# Altium schematic symbol library Funk.SchLib: 8 symbols
Pins are listed as number, name and electrical type; pins without a type are passive.

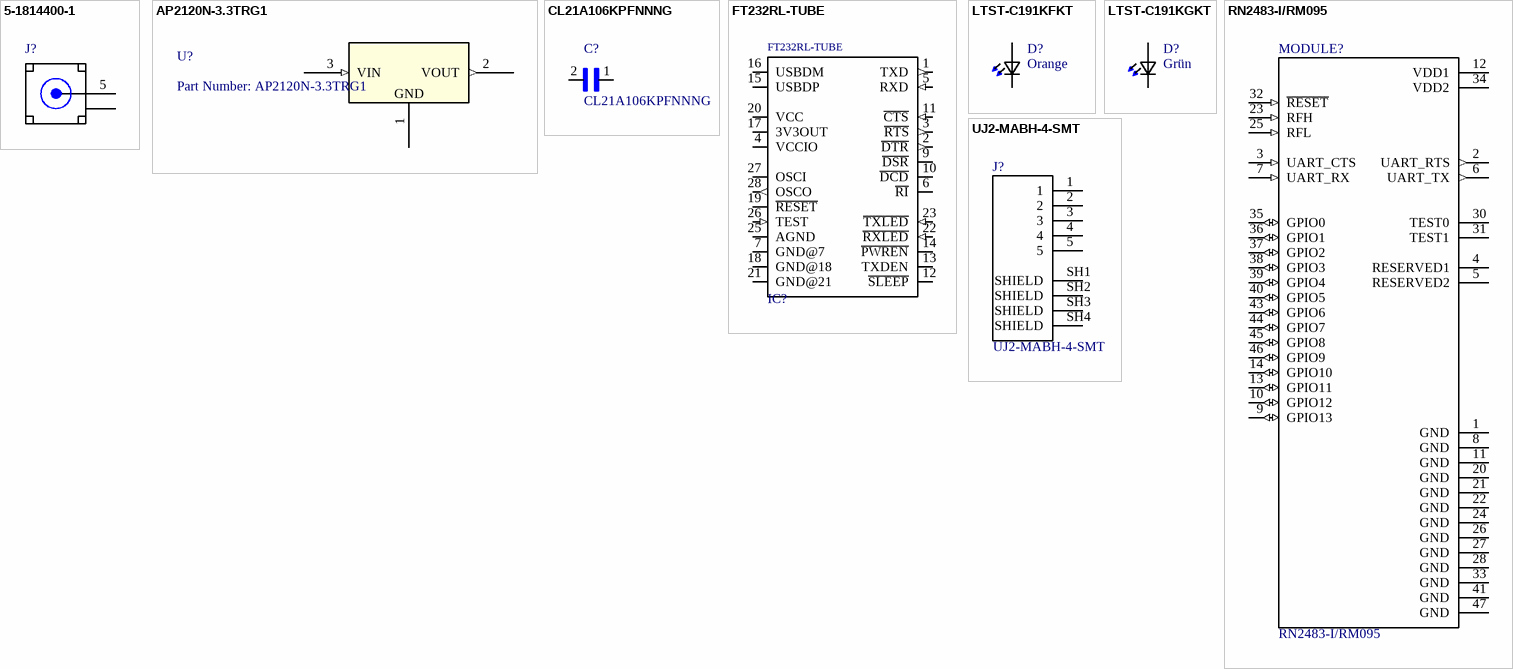
[diagram p0: symbols 5-1814400-1 to UJ2-MABH-4-SMT]

## 5-1814400-1
designator J?  (value not drawn)
Conn SMA RCP 0Hz to 3GHz 50Ohm Solder RA Thru-Hole Gold Over Nickel Over Copper Bag; MF: TE Connectivity; Number_of_Positions: 1; Digi-Key_Purchase_URL: https://www.digikey.ch/product-detail/en/te-connectivity-amp-connectors/5-1814400-1/A97593-ND/1755981?utm_source=snapeda&utm_medium=aggregator&utm_campaign=symbol; Digi-Key_Part_Number: A97593-ND; SnapEDA_Link: https://www.snapeda.com/parts/5-1814400-1/TE%20Connectivity%20AMP%20Connectors/view-part/?ref=snap; TE_purchase_URL: https://www.te.com/usa-en/product-5-1814400-1.html?te_bu=Cor&te_type=disp&te_campaign=seda_glo_cor-seda-global-disp-prtnr-fy19-seda-model-bom-cta_sma-317_1&elqCampaignId=32493; MP: 5-1814400-1; Package: None; EU_RoHS_Compliance: Compliant; Value: *
footprint *CONN_5-1814400-1
pins: 1 GND (power), 2 GND (power), 3 GND (power), 4 GND (power), 5 SIGNAL

## AP2120N-3.3TRG1
designator U?, comment Part Number: AP2120N-3.3TRG1
No Description Available; Vendor: Diodes Inc; Built_By: EMA_UL_Team; Manufacturer_Part_Number: AP2120N-3.3TRG1; Copyright: Copyright (C) 2018 Accelerated Designs. All rights reserved; RefDes: RefDes; Type: DEV; Value: Value
footprint SOT-23
footprint SOT-23-M
pins: 1 GND (power), 2 VOUT (out), 3 VIN (in)

## CL21A106KPFNNNG
designator C?
MF: Samsung Electro-Mechanics; Digi-Key_Part_Number: 1276-6456-1-ND; Digi-Key_Purchase_URL: https://www.digikey.com/product-detail/en/samsung-electro-mechanics/CL21A106KPFNNNG/1276-6456-1-ND/5958084?utm_source=snapeda&utm_medium=aggregator&utm_campaign=symbol; SnapEDA_Link: https://www.snapeda.com/parts/CL21A106KPFNNNG/Samsung%20Electro-Mechanics/view-part/?ref=snap; MP: CL21A106KPFNNNG; Package: 0805 Samsung; Value: *
footprint *CAPC2012X135N
pins: 1, 2

## FT232RL-TUBE
designator IC?  (value not drawn)
USB-to-UART 1-CH 256byte FIFO 5V 28-Pin SSOP Tube; MF: FTDI,; MP: FT232RL-TUBE; Digi-Key_Part_Number: 768-1306-ND; Package: SSOP-28 FTDI; Digi-Key_Purchase_URL: https://www.digikey.com/product-detail/en/ftdi-future-technology-devices-international-ltd/FT232RL-TUBE/768-1306-ND/4006920?utm_source=snapeda&utm_medium=aggregator&utm_campaign=symbol; SnapEDA_Link: https://www.snapeda.com/parts/FT232RL-TUBE/FTDI%2C%20Future%20Technology%20Devices%20International%20Ltd/view-part/?ref=snap; Value: *
footprint *SSOP28-LD
pins: 1 TXD (out), 2 ~{DTR} (out), 3 ~{RTS} (out), 4 VCCIO (power), 5 RXD (in), 6 ~{RI}, 7 GND@7 (power), 9 ~{DSR}, 10 ~{DCD}, 11 ~{CTS} (in), 12 ~{SLEEP}, 13 TXDEN, 14 ~{PWREN}, 15 USBDP (io), 16 USBDM (io), 17 3V3OUT (power), 18 GND@18 (power), 19 ~{RESET}, 20 VCC (power), 21 GND@21 (power), 22 ~{RXLED} (in), 23 ~{TXLED} (in), 25 AGND (power), 26 TEST (in), 27 OSCI, 28 OSCO (out)

## LTST-C191KFKT
designator D?, comment Orange
/ LED; SMD; 0603; orange; 45-90mcd; 1.6x0.8x0.55mm; 130Â°; 2Ã·2.4V; 20mA /; MP: LTST-C191KFKT; MF: Lite-On Inc.; Digi-Key_Purchase_URL: https://www.digikey.com/product-detail/en/lite-on-inc/LTST-C191KFKT/160-1445-1-ND/386832?utm_source=snapeda&utm_medium=aggregator&utm_campaign=symbol; SnapEDA_Link: https://www.snapeda.com/parts/LTST-C191KFKT/Lite-On%20Inc./view-part/?ref=snap; Digi-Key_Part_Number: 160-1445-1-ND; Package: 0603 Lite-On; Value: *
footprint *0603
pins: 1 K2, 2 A2

## LTST-C191KGKT
designator D?, comment Grün
/ LED; SMD; 0603; grün; 35mcd; 1.6x0.8x0.55mm; 130Â°; 2Ã·2.V; 20mA /; MP: LTST-C191KGKT; MF: Lite-On Inc.; Digi-Key_Purchase_URL: https://www.digikey.ch/product-detail/de/lite-on-inc/LTST-C191KGKT/160-1446-1-ND/386834; SnapEDA_Link: https://www.snapeda.com/parts/LTST-C191KFKT/Lite-On%20Inc./view-part/?ref=snap; Digi-Key_Part_Number: 160-1446-1-ND; Package: 0603 Lite-On; Value: *
footprint *0603
pins: 1 K2, 2 A2

## RN2483-I/RM095
designator MODULE?
Sub-GHz Dual Band Long Range Transceiver LoRa Module; MF: Microchip; Availability: Unavailable; Package: None; SnapEDA_Link: https://www.snapeda.com/parts/RN2483-I/RM095/Microchip/view-part/?ref=snap; MP: RN2483-I/RM095; Price: None; Value: *
footprint *MICROCHIP_RN2483-I/RM095
pins: 1 GND, 2 UART_RTS (out), 3 UART_CTS (in), 4 RESERVED1, 5 RESERVED2, 6 UART_TX (out), 7 UART_RX (in), 8 GND, 9 GPIO13 (io), 10 GPIO12 (io), 11 GND, 12 VDD1 (power), 13 GPIO11 (io), 14 GPIO10 (io), 20 GND, 21 GND, 22 GND, 23 RFH (in), 24 GND, 25 RFL (in), 26 GND, 27 GND, 28 GND, 30 TEST0, 31 TEST1, 32 ~{RESET} (in), 33 GND, 34 VDD2 (power), 35 GPIO0 (io), 36 GPIO1 (io), 37 GPIO2 (io), 38 GPIO3 (io), 39 GPIO4 (io), 40 GPIO5 (io), 41 GND, 43 GPIO6 (io), 44 GPIO7 (io), 45 GPIO8 (io), 46 GPIO9 (io), 47 GND

## UJ2-MABH-4-SMT
designator J?
Mini AB, USB 2.0, 1 A, Right Angle, Surface Mount _SMT_, USB Receptacle; MF: CUI Inc.; Digi-Key_Part_Number: 102-5890-1-ND; Package: None; Digi-Key_Purchase_URL: https://www.digikey.com/product-detail/en/cui-inc/UJ2-MABH-4-SMT-TR/102-5890-1-ND/9838992?utm_source=snapeda&utm_medium=aggregator&utm_campaign=symbol; CUI_purchase_URL: https://www.cui.com/product/interconnect/connectors/usb-connectors/uj2-mabh-smt-series?utm_source=snapeda.com&utm_medium=referral&utm_campaign=snapedaBOM; SnapEDA_Link: https://www.snapeda.com/parts/UJ2-MABH-4-SMT/CUI%20Inc./view-part/?ref=snap; MP: UJ2-MABH-4-SMT; Value: *
footprint *CUI_UJ2-MABH-4-SMT_UJ2-MABH-4-SMT(Primary)
pins: 1, 2, 3, 4, 5, SH1 SHIELD, SH2 SHIELD, SH3 SHIELD, SH4 SHIELD